# EAGLE library part 2X19-254 (library JLB6_Connec)
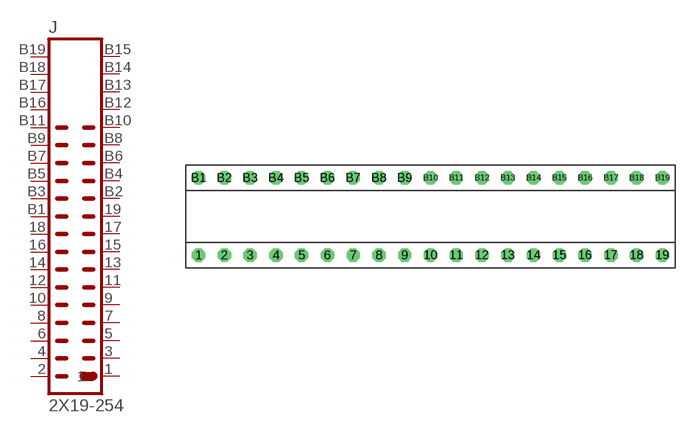
[diagram p78: symbol with the pads of 2X19-254-LAB; footprint 2X19-254-LAB]

Designator prefix J

## 2X19-254  [2X19-254-LAB]
1  1  pas
2  2  pas
3  3  pas
4  4  pas
5  5  pas
6  6  pas
7  7  pas
8  8  pas
9  9  pas
10  10  pas
11  11  pas
12  12  pas
13  13  pas
14  14  pas
15  15  pas
16  16  pas
17  17  pas
18  18  pas
19  19  pas
B1  20  pas
B2  21  pas
B3  22  pas
B4  23  pas
B5  24  pas
B6  25  pas
B7  26  pas
B8  27  pas
B9  28  pas
B10  29  pas
B11  30  pas
B12  31  pas
B13  32  pas
B14  33  pas
B15  34  pas
B16  35  pas
B17  36  pas
B18  37  pas
B19  38  pas

## Footprint 2X19-254-LAB (pad centres in mm)
drill 0.813 octagon: 1 0,0; 2 2.54,0; 3 5.08,0; 4 7.62,0; 5 10.16,0; 6 12.7,0; 7 15.24,0; 8 17.78,0; 9 20.32,0; 10 22.86,0; 11 25.4,0; 12 27.94,0; 13 30.48,0; 14 33.02,0; 15 35.56,0; 16 38.1,0; 17 40.64,0; 18 43.18,0; 19 45.72,0; B1 0,7.62; B2 2.54,7.62; B3 5.08,7.62; B4 7.62,7.62; B5 10.16,7.62; B6 12.7,7.62; B7 15.24,7.62; B8 17.78,7.62; B9 20.32,7.62; B10 22.86,7.62; B11 25.4,7.62; B12 27.94,7.62; B13 30.48,7.62; B14 33.02,7.62; B15 35.56,7.62; B16 38.1,7.62; B17 40.64,7.62; B18 43.18,7.62; B19 45.72,7.62